# Altium footprint library 传感器.PcbLib: 3 footprints
Each footprint in its own frame and in the unit in brackets; x right, y up, seen from the top. Pads: shape width x height; smd on the part's side, far side on the other; paste and mask are expansions set on the pad; w line width, h text height; cw(c..) or ccw(c..) is an arc to the next point about the centre after c.
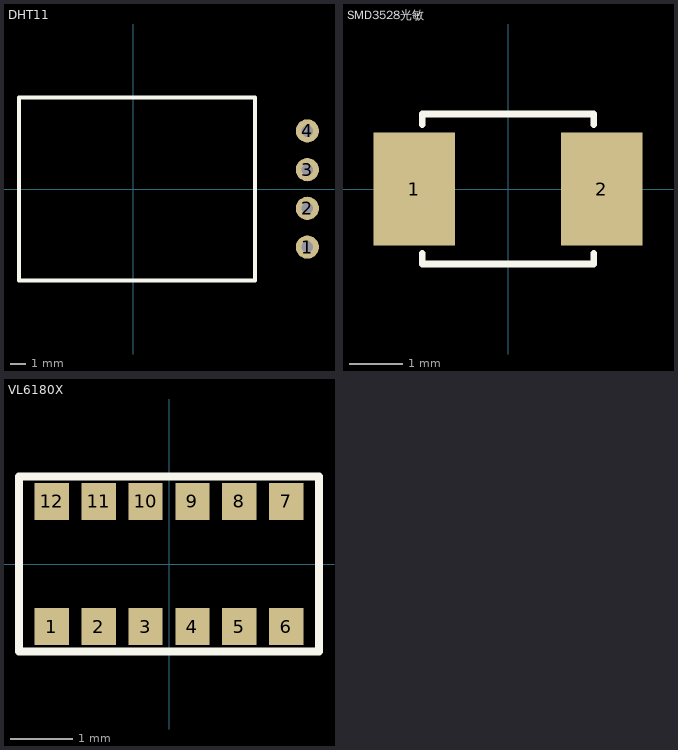
[diagram p0: the footprints below, top view; thin cyan lines are the x and y axes]

## DHT11 [mil]
pads (4):
  round 60 hole 30: 1(450,-150) 2(450,-50) 3(450,50) 4(450,150)
Top Overlay:
  lines w10: -295.28,-236.22 -295.28,0 -295.28,236.22 314.96,236.22 314.96,-236.22 -295.28,-236.22
3D body: height 234, standoff -1.7, extent -297.17,-238.24 313.17,235

## SMD3528光敏 [mm]
pads (2):
  rect 1.524x2.1 smd: 1(-1.75,0) 2(1.75,0)
Top Overlay:
  lines w0.127: -1.6,-1.2 -1.6,-1.4 1.6,-1.4 1.6,-1.2 ; -1.6,1.2 -1.6,1.4 1.6,1.4 1.6,1.2
3D body: height 1.9, standoff 0, extent -1.74,-1.411 1.76,1.389

## VL6180X [mm]
pads (12):
  rect 0.55x0.6 smd: 1(-1.875,-1) 2(-1.125,-1) 3(-0.375,-1) 4(0.375,-1) 5(1.125,-1) 6(1.875,-1) 7(1.875,1) 8(1.125,1) 9(0.375,1) 10(-0.375,1) 11(-1.125,1) 12(-1.875,1)
Top Overlay:
  lines w0.127: -2.4,-1.4 -2.4,0 -2.4,1.4 2.4,1.4 2.4,-1.4 -2.4,-1.4
3D body: height 1, standoff 0, extent -2.4,-1.4 2.4,1.4